# Altium schematic symbol library MCU.SchLib: 1 symbol
Pins are listed as number, name and electrical type; pins without a type are passive.

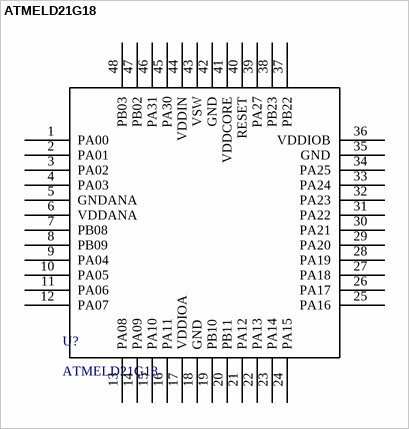
[diagram p0: symbol ATMELD21G18]

## ATMELD21G18
designator U?
ATMELD21G18A
footprint TQPF48 (F-QFP7x7-G48/N)
pins: 1 PA00 "My Pad", 2 PA01 "My Pad", 3 PA02 "My Pad", 4 PA03 "My Pad", 5 GNDANA "My Pad", 6 VDDANA "My Pad", 7 PB08 "My Pad", 8 PB09 "My Pad", 9 PA04 "My Pad", 10 PA05 "My Pad", 11 PA06 "My Pad", 12 PA07 "My Pad", 13 PA08 "My Pad", 14 PA09 "My Pad", 15 PA10 "My Pad", 16 PA11 "My Pad", 17 VDDIOA "My Pad", 18 GND "My Pad", 19 PB10 "My Pad", 20 PB11 "My Pad", 21 PA12 "My Pad", 22 PA13 "My Pad", 23 PA14 "My Pad", 24 PA15 "My Pad", 25 PA16 "My Pad", 26 PA17 "My Pad", 27 PA18 "My Pad", 28 PA19 "My Pad", 29 PA20 "My Pad", 30 PA21 "My Pad", 31 PA22 "My Pad", 32 PA23 "My Pad", 33 PA24 "My Pad", 34 PA25 "My Pad", 35 GND "My Pad", 36 VDDIOB "My Pad", 37 PB22 "My Pad", 38 PB23 "My Pad", 39 PA27 "My Pad", 40 RESET "My Pad", 41 VDDCORE "My Pad", 42 GND "My Pad", 43 VSW "My Pad", 44 VDDIN "My Pad", 45 PA30 "My Pad", 46 PA31 "My Pad", 47 PB02 "My Pad", 48 PB03 "My Pad"